# EAGLE library part 1511050_50POS_MISSINGPADS (library con-harting)
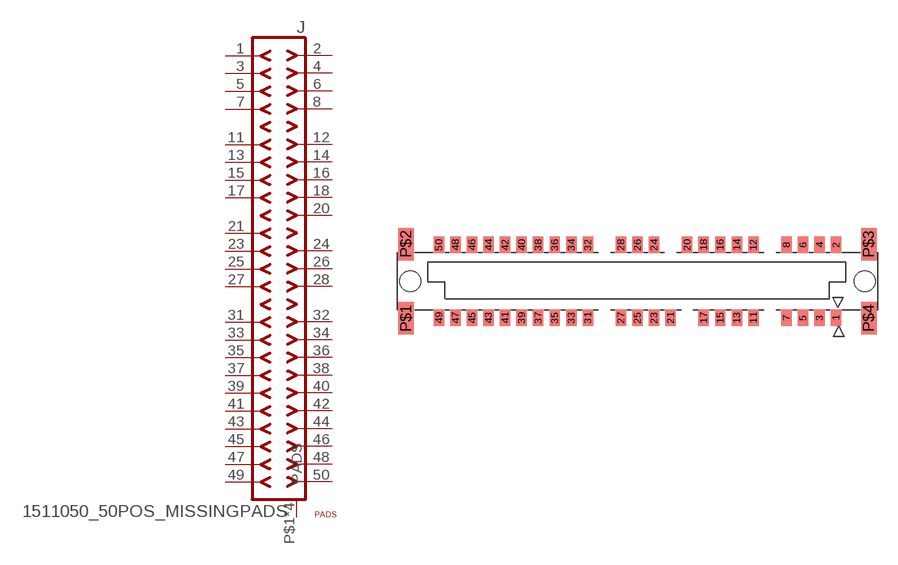
[diagram p1: symbol with the pads of 1521050_50POS_SMT_MISSINGPADS; footprint 1521050_50POS_SMT_MISSINGPADS]

Designator prefix J

## 1511050_50POS_MISSINGPADS (ASSOC: 1195-3431-ND; CABLE: 1195-3528-ND; DIGIKEY: 1195-3365-1-ND)  [1521050_50POS_SMT_MISSINGPADS]
1  1  pas
2  2  pas
3  3  pas
4  4  pas
5  5  pas
6  6  pas
7  7  pas
8  8  pas
11  11  pas
12  12  pas
13  13  pas
14  14  pas
15  15  pas
16  16  pas
17  17  pas
18  18  pas
20  20  pas
21  21  pas
23  23  pas
24  24  pas
25  25  pas
26  26  pas
27  27  pas
28  28  pas
31  31  pas
32  32  pas
33  33  pas
34  34  pas
35  35  pas
36  36  pas
37  37  pas
38  38  pas
39  39  pas
40  40  pas
41  41  pas
42  42  pas
43  43  pas
44  44  pas
45  45  pas
46  46  pas
47  47  pas
48  48  pas
49  49  pas
50  50  pas
P$1  PADS
P$2  PADS
P$3  PADS
P$4  PADS

## Footprint 1521050_50POS_SMT_MISSINGPADS (pad centres in mm)
smd 0.8 x 1.3: 1 15.24,-2.8; 2 15.24,2.8; 3 13.97,-2.8; 4 13.97,2.8; 5 12.7,-2.8; 6 12.7,2.8; 7 11.43,-2.8; 8 11.43,2.8; 11 8.89,-2.8; 12 8.89,2.8; 13 7.62,-2.8; 14 7.62,2.8; 15 6.35,-2.8; 16 6.35,2.8; 17 5.08,-2.8; 18 5.08,2.8; 20 3.81,2.8; 21 2.54,-2.8; 23 1.27,-2.8; 24 1.27,2.8; 25 0,-2.8; 26 0,2.8; 27 -1.27,-2.8; 28 -1.27,2.8; 31 -3.81,-2.8; 32 -3.81,2.8; 33 -5.08,-2.8; 34 -5.08,2.8; 35 -6.35,-2.8; 36 -6.35,2.8; 37 -7.62,-2.8; 38 -7.62,2.8; 39 -8.89,-2.8; 40 -8.89,2.8; 41 -10.16,-2.8; 42 -10.16,2.8; 43 -11.43,-2.8; 44 -11.43,2.8; 45 -12.7,-2.8; 46 -12.7,2.8; 47 -13.97,-2.8; 48 -13.97,2.8; 49 -15.24,-2.8; 50 -15.24,2.8
smd 1.2 x 2.5: P$1 -17.75,-2.85; P$2 -17.75,2.85; P$3 17.75,2.85; P$4 17.75,-2.85
hole 1.6 at 17.45,0
hole 1.6 at -17.45,0